# Altium schematic symbol library Модули.SchLib: 30 symbols
Pins are listed as number, name and electrical type; pins without a type are passive.

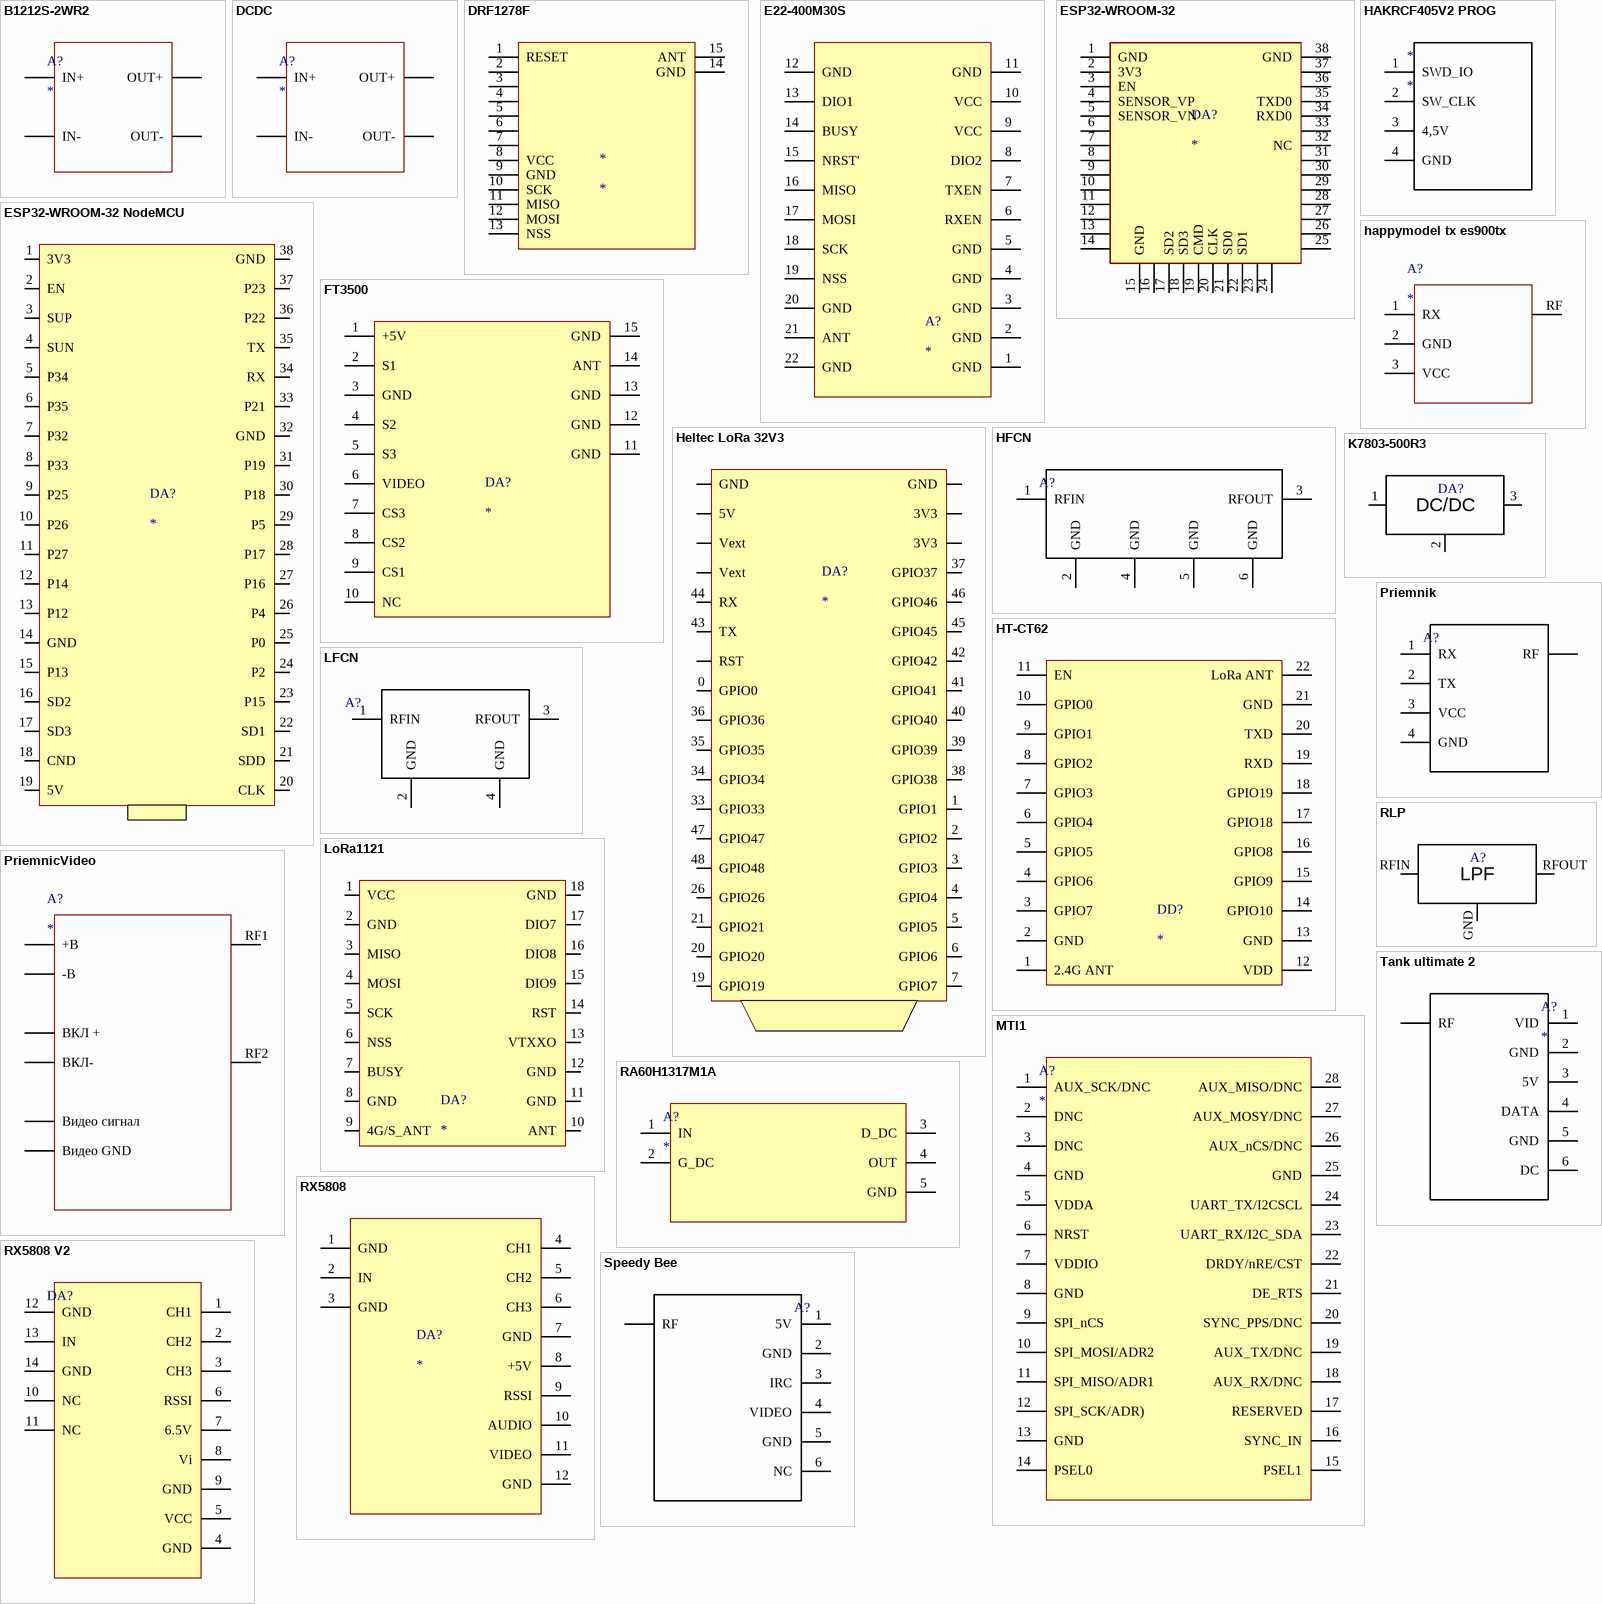
[diagram p0: symbols B1212S-2WR2 to Tank ultimate 2]

## B1212S-2WR2
designator A?
footprint B1212S-2WR2
pins: 1 IN+, 2 IN-, 3 OUT+, 4 OUT-

## DCDC
designator A?
footprint LM2596 HW-411 DCDC
pins: 1 IN+, 2 IN-, 3 OUT+, 4 OUT-

## DRF1278F
designator *
footprint DRF1278F
pins: 1 RESET, 2, 3, 4, 5, 6, 7, 8 VCC, 9 GND, 10 SCK, 11 MISO, 12 MOSI, 13 NSS, 14 GND, 15 ANT

## E22-400M30S
designator A?
pins: 1 GND, 2 GND, 3 GND, 4 GND, 5 GND, 6 RXEN, 7 TXEN, 8 DIO2, 9 VCC, 10 VCC, 11 GND, 12 GND, 13 DIO1, 14 BUSY, 15 NRST', 16 MISO, 17 MOSI, 18 SCK, 19 NSS, 20 GND, 21 ANT, 22 GND

## ESP32-WROOM-32
designator DA?
footprint ESP32-WROOM-32
pins: 1 GND, 2 3V3, 3 EN, 4 SENSOR_VP, 5 SENSOR_VN, 6, 7, 8, 9, 10, 11, 12, 13, 14, 15 GND, 16, 17 SD2, 18 SD3, 19 CMD, 20 CLK, 21 SD0, 22 SD1, 23, 24, 25, 26, 27, 28, 29, 30, 31, 32 NC, 33, 34 RXD0, 35 TXD0, 36, 37, 38 GND

## ESP32-WROOM-32 NodeMCU
designator DA?
footprint ESP32-WROOM-32 NodeMCU
pins: 1 3V3, 2 EN, 3 SUP, 4 SUN, 5 P34, 6 P35, 7 P32, 8 P33, 9 P25, 10 P26, 11 P27, 12 P14, 13 P12, 14 GND, 15 P13, 16 SD2, 17 SD3, 18 CND, 19 5V, 20 CLK, 21 SDD, 22 SD1, 23 P15, 24 P2, 25 P0, 26 P4, 27 P16, 28 P17, 29 P5, 30 P18, 31 P19, 32 GND, 33 P21, 34 RX, 35 TX, 36 P22, 37 P23, 38 GND

## FT3500
designator DA?
footprint FT3500
pins: 1 +5V, 2 S1, 3 GND, 4 S2, 5 S3, 6 VIDEO, 7 CS3, 8 CS2, 9 CS1, 10 NC, 11 GND, 12 GND, 13 GND, 14 ANT, 15 GND

## HAKRCF405V2 PROG
designator *
footprint HAKRCF405V2 PROG
pins: 1 SWD_IO, 2 SW_CLK, 3 4,5V, 4 GND

## happymodel tx es900tx
designator A?
pins: 1 RX, 2 GND, 3 VCC, RF 19

## Heltec LoRa 32V3
designator DA?
footprint Heltec LoRa 32V2
pins: 0 GPIO0, 1 GPIO1, 2 GPIO2, 3 GPIO3, 3V3, 3V3, 4 GPIO4, 5 GPIO5, 5V, 6 GPIO6, 7 GPIO7, 19 GPIO19, 20 GPIO20, 21 GPIO21, 26 GPIO26, 33 GPIO33, 34 GPIO34, 35 GPIO35, 36 GPIO36, 37 GPIO37, 38 GPIO38, 39 GPIO39, 40 GPIO40, 41 GPIO41, 42 GPIO42, 43 TX, 44 RX, 45 GPIO45, 46 GPIO46, 47 GPIO47, 48 GPIO48, GND, GND, RST, Ve Vext, Ve Vext

## HFCN
designator A?  (value not drawn)
footprint HFCN
pins: 1 RFIN, 2 GND, 3 RFOUT, 4 GND, 5 GND, 6 GND

## HT-CT62
designator DD?
footprint HT-CT62
pins: 1 2.4G ANT, 2 GND, 3 GPIO7, 4 GPIO6, 5 GPIO5, 6 GPIO4, 7 GPIO3, 8 GPIO2, 9 GPIO1, 10 GPIO0, 11 EN, 12 VDD, 13 GND, 14 GPIO10, 15 GPIO9, 16 GPIO8, 17 GPIO18, 18 GPIO19, 19 RXD, 20 TXD, 21 GND, 22 LoRa ANT

## K7803-500R3
designator DA?  (value not drawn)
pins: 1 28, 2 29, 3
text: DC/DC

## LFCN
designator A?  (value not drawn)
footprint LFCN
pins: 1 RFIN, 2 GND, 3 RFOUT, 4 GND

## LoRa1121
designator DA?
footprint LoRa1121
pins: 1 VCC, 2 GND, 3 MISO, 4 MOSI, 5 SCK, 6 NSS, 7 BUSY, 8 GND, 9 4G/S_ANT, 10 ANT, 11 GND, 12 GND, 13 VTXXO, 14 RST, 15 DIO9, 16 DIO8, 17 DIO7, 18 GND

## MTI1
designator A?
footprint MTI1
pins: 1 AUX_SCK/DNC, 2 DNC, 3 DNC, 4 GND, 5 VDDA, 6 NRST, 7 VDDIO, 8 GND, 9 SPI_nCS, 10 SPI_MOSI/ADR2, 11 SPI_MISO/ADR1, 12 SPI_SCK/ADR), 13 GND, 14 PSEL0, 15 PSEL1, 16 SYNC_IN, 17 RESERVED, 18 AUX_RX/DNC, 19 AUX_TX/DNC, 20 SYNC_PPS/DNC, 21 DE_RTS, 22 DRDY/nRE/CST, 23 UART_RX/I2C_SDA, 24 UART_TX/I2CSCL, 25 GND, 26 AUX_nCS/DNC, 27 AUX_MOSY/DNC, 28 AUX_MISO/DNC

## PriemnicVideo
designator A?
pins: ?1 +B, ?2 -B, ?3 ВКЛ +, ?4 ВКЛ-, ?5 Видео сигнал, ?6 Видео GND, RF1 21, RF2 21

## Priemnik
designator A?  (value not drawn)
pins: 1 RX, 2 TX, 3 VCC, 4 GND, ?1 RF

## RA60H1317M1A
designator A?
footprint RA60H1317M1A
footprint RA60H1317M1A V2
pins: 1 IN, 2 G_DC, 3 D_DC, 4 OUT, 5 GND

## RLP
designator A?  (value not drawn)
footprint RPL
pins: GND 29, RFIN, RFOUT
text: LPF

## RX5808
designator DA?
footprint RX5808
pins: 1 GND, 2 IN, 3 GND, 4 CH1, 5 CH2, 6 CH3, 7 GND, 8 +5V, 9 RSSI, 10 AUDIO, 11 VIDEO, 12 GND

## RX5808 V2
designator DA?  (value not drawn)
footprint R5801
pins: 1 CH1, 2 CH2, 3 CH3, 4 GND, 5 VCC, 6 RSSI, 7 6.5V, 8 Vi, 9 GND, 10 NC, 11 NC, 12 GND, 13 IN, 14 GND

## Speedy Bee
designator A?  (value not drawn)
footprint SPEEDY BEE
pins: 1 5V, 2 GND, 3 IRC, 4 VIDEO, 5 GND, 6 NC, ?1 RF

## Tank ultimate 2
designator A?
pins: 1 VID, 2 GND, 3 5V, 4 DATA, 5 GND, 6 DC, 7 RF

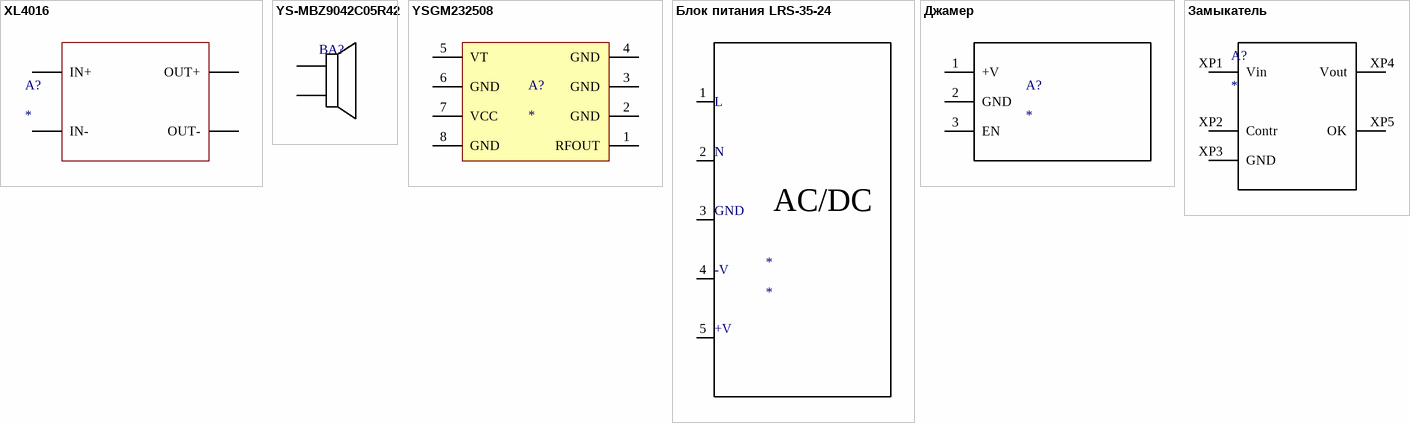
[diagram p1: symbols XL4016 to Замыкатель]

## XL4016
designator A?
footprint XL4016
footprint XL4016 без габаритов
pins: 1 IN+, 2 IN-, 3 OUT+, 4 OUT-

## YS-MBZ9042C05R42
designator BA?  (value not drawn)
footprint YS-MBZ9042C05R42
pins: 1, 2

## YSGM232508
designator A?
footprint YSGM232508
pins: 1 RFOUT, 2 GND, 3 GND, 4 GND, 5 VT, 6 GND, 7 VCC, 8 GND

## Блок питания LRS-35-24
designator *
pins: 1 31, 2 31, 3 31, 4 31, 5 31
text: L; N; GND; AC/DC; -V; +V

## Джамер
designator A?
footprint Джамер
footprint Джамер без габаритов
pins: 1 +V, 2 GND, 3 EN

## Замыкатель
designator A?
pins: XP1 Vin, XP2 Contr, XP3 GND, XP4 Vout, XP5 OK